# Altium schematic symbol library VBPW34S.SchLib: 1 symbol
Pins are listed as number, name and electrical type; pins without a type are passive.

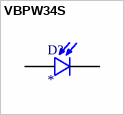
[diagram p0: symbol VBPW34S]

## VBPW34S
designator D?
VBPW34SR Series 60 V 940 nm 50 mA 215 mW Surface Mount Silicon PIN Photodiode; MF: {'manufacturer': u'Vishay'}; Package: None; Price: None; Value: *; MP: VBPW34S; Availability: Unavailable
footprint XDCR_VBPW34S
pins: A, K C